# EAGLE library part ITG3200 (library RSC-16)
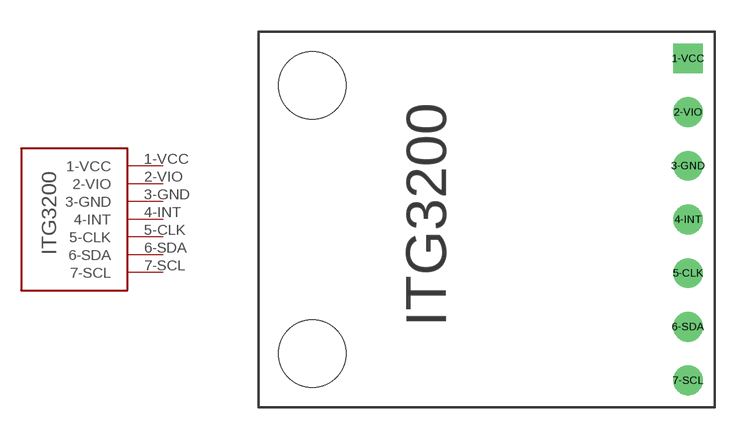
[diagram p3: symbol with the pads of ITG3200; footprint ITG3200]

Designator prefix -

## ITG3200  [ITG3200]
1-VCC  1-VCC
2-VIO  2-VIO
3-GND  3-GND
4-INT  4-INT
5-CLK  5-CLK
6-SDA  6-SDA
7-SCL  7-SCL

## Footprint ITG3200 (pad centres in mm)
drill 0.9 square: 1-VCC 20.32,16.51
drill 0.9: 2-VIO 20.32,13.97; 3-GND 20.32,11.43; 4-INT 20.32,8.89; 5-CLK 20.32,6.35; 6-SDA 20.32,3.81; 7-SCL 20.32,1.27
hole 3.2 at 2.54,15.24
hole 3.2 at 2.54,2.54